# EAGLE library part LM2623 (library TexasInstruments)
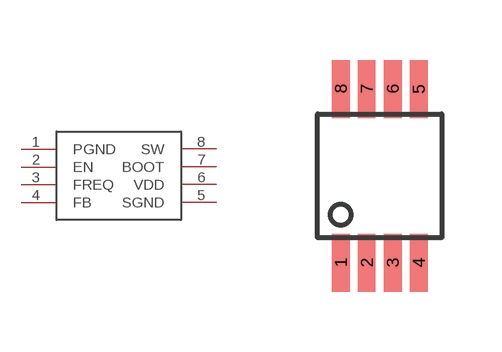
[diagram p6: symbol with the pads of DGK-8(VSSOP); footprint DGK-8(VSSOP)]

Designator prefix -

## LM2623  [DGK-8(VSSOP)]
1  PGND
2  EN
3  FREQ
4  FB
5  SGND
6  VDD
7  BOOT
8  SW

## Footprint DGK-8(VSSOP) (pad centres in mm)
smd 0.45 x 1.45: 1 -0.975,-2.175; 2 -0.325,-2.175; 3 0.325,-2.175; 4 0.975,-2.175; 5 0.975,2.175; 6 0.325,2.175; 7 -0.325,2.175; 8 -0.975,2.175